# Altium footprint library WR-WTB.PcbLib: 259 footprints (part 9 of 17)
Each footprint in its own frame and in the unit in brackets; x right, y up, seen from the top. Pads: shape width x height; smd on the part's side, far side on the other; paste and mask are expansions set on the pad; w line width, h text height; cw(c..) or ccw(c..) is an arc to the next point about the centre after c.
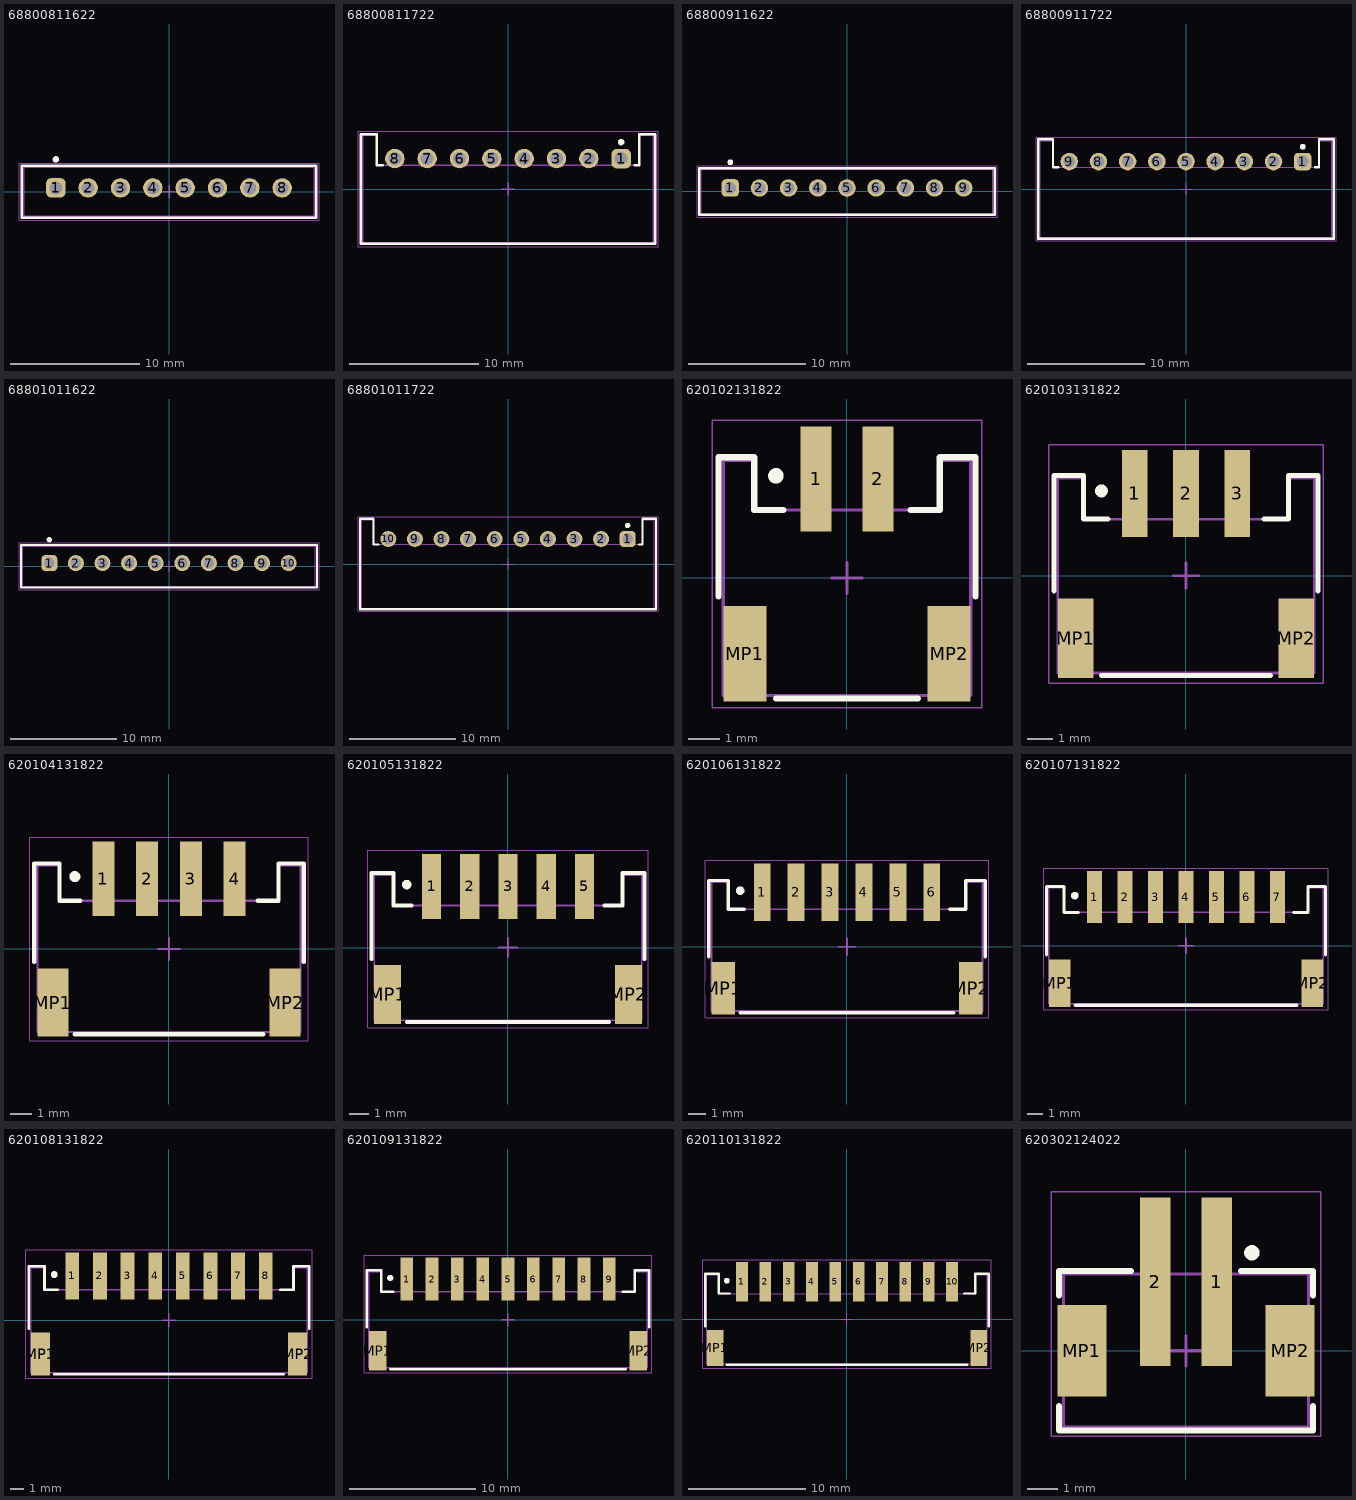
[diagram p8: the footprints below, top view; thin cyan lines are the x and y axes]

## 68800811622 [mm] "2.50mm ¡°J¡± Type Vertical Male Shrouded Header, 8p"
height 6
pads (8):
  rrect50% 1.5x1.5 hole 1: 1(-8.75,0.3)
  round 1.5 hole 1: 2(-6.25,0.3) 3(-3.75,0.3) 4(-1.25,0.3) 5(1.25,0.3) 6(3.75,0.3) 7(6.25,0.3) 8(8.75,0.3)
Top Overlay:
  circle w0.25: c-8.75,2.5 r0.125
  lines w0.2: -11.4,-2 11.4,-2 11.4,2 -11.4,2 -11.4,-2
Top Assembly:
  lines w0.1: -11.25,-1.9 -11.25,1.9 11.25,1.9 11.25,-1.9 -11.25,-1.9
Top Designator:
  text ".Designator" at -3.647,-0.357 h1
Top Courtyard:
  lines w0.05: -11.6,-2.2 11.6,-2.2 11.6,2.2 -11.6,2.2 -11.6,-2.2
Top Component Center:
  lines w0.1: -0.5,0 0.5,0 ; 0,-0.5 0,0.5
3D body "68800811622.stp": height 6.03, standoff -3.18, extent -11.25,-1.9 11.25,1.9

## 68800811722 [mm] "2.50mm ¡°J¡± Type Male Horizontal Shrouded Header, 8p"
height 4.2
pads (8):
  rrect50% 1.5x1.5 hole 1: 1(8.75,2.35)
  round 1.5 hole 1: 2(6.25,2.35) 3(3.75,2.35) 4(1.25,2.35) 5(-1.25,2.35) 6(-3.75,2.35) 7(-6.25,2.35) 8(-8.75,2.35)
Top Overlay:
  circle w0.25: c8.75,3.625 r0.125
  lines w0.2: -9.7,1.85 -10.15,1.85 -10.15,4.25 -11.4,4.25 -11.4,-4.25 11.4,-4.25 11.4,4.25 10.15,4.25 10.15,1.85 9.8,1.85
Top Assembly:
  lines w0.1: -11.25,-4.15 -11.25,4.15 -10.15,4.15 -10.15,1.85 10.15,1.85 10.15,4.15 11.25,4.15 11.25,-4.15 -11.25,-4.15
Top Designator:
  text ".Designator" at -3.647,-0.357 h1
Top Courtyard:
  lines w0.05: -11.6,-4.45 11.6,-4.45 11.6,4.45 -11.6,4.45 -11.6,-4.45
Top Component Center:
  lines w0.1: -0.5,0 0.5,0 ; 0,-0.5 0,0.5
3D body "68800811722.stp": height 4.23, standoff -3.27, extent -11.25,-4.15 11.25,4.15

## 68800911622 [mm] "2.50mm ¡°J¡± Type Vertical Male Shrouded Header, 9p"
height 6
pads (9):
  rrect50% 1.5x1.5 hole 1: 1(-10,0.3)
  round 1.5 hole 1: 2(-7.5,0.3) 3(-5,0.3) 4(-2.5,0.3) 5(0,0.3) 6(2.5,0.3) 7(5,0.3) 8(7.5,0.3) 9(10,0.3)
Top Overlay:
  circle w0.25: c-10,2.5 r0.125
  lines w0.2: -12.65,-2 12.65,-2 12.65,2 -12.65,2 -12.65,-2
Top Assembly:
  lines w0.1: -12.5,-1.9 -12.5,1.9 12.5,1.9 12.5,-1.9 -12.5,-1.9
Top Designator:
  text ".Designator" at -3.647,-0.357 h1
Top Courtyard:
  lines w0.05: -12.85,-2.2 12.85,-2.2 12.85,2.2 -12.85,2.2 -12.85,-2.2
Top Component Center:
  lines w0.1: -0.5,0 0.5,0 ; 0,-0.5 0,0.5
3D body "68800911622.stp": height 6.03, standoff -3.18, extent -12.5,-1.9 12.5,1.9

## 68800911722 [mm] "2.50mm ¡°J¡± Type Male Horizontal Shrouded Header, 9p"
height 4.2
pads (9):
  rrect50% 1.5x1.5 hole 1: 1(10,2.35)
  round 1.5 hole 1: 2(7.5,2.35) 3(5,2.35) 4(2.5,2.35) 5(0,2.35) 6(-2.5,2.35) 7(-5,2.35) 8(-7.5,2.35) 9(-10,2.35)
Top Overlay:
  circle w0.25: c10,3.625 r0.125
  lines w0.2: -10.95,1.85 -11.4,1.85 -11.4,4.25 -12.65,4.25 -12.65,-4.25 12.65,-4.25 12.65,4.25 11.4,4.25 11.4,1.85 11.05,1.85
Top Assembly:
  lines w0.1: -12.5,-4.15 12.5,-4.15 12.5,4.15 11.4,4.15 11.4,1.85 -11.4,1.85 -11.4,4.15 -12.5,4.15 -12.5,-4.15
Top Designator:
  text ".Designator" at -3.647,-0.357 h1
Top Courtyard:
  lines w0.05: -12.85,-4.45 -12.85,4.45 12.85,4.45 12.85,-4.45 -12.85,-4.45
Top Component Center:
  lines w0.1: -0.5,0 0.5,0 ; 0,-0.5 0,0.5
3D body "68800911722.stp": height 4.23, standoff -3.27, extent -12.5,-4.15 12.5,4.15

## 68801011622 [mm] "2.50mm ¡°J¡± Type Vertical Male Shrouded Header, 10p"
height 6
pads (10):
  rrect50% 1.5x1.5 hole 1: 1(-11.25,0.3)
  round 1.5 hole 1: 2(-8.75,0.3) 3(-6.25,0.3) 4(-3.75,0.3) 5(-1.25,0.3) 6(1.25,0.3) 7(3.75,0.3) 8(6.25,0.3) 9(8.75,0.3) 10(11.25,0.3)
Top Overlay:
  circle w0.25: c-11.25,2.5 r0.125
  lines w0.2: -13.9,-2 -13.9,2 13.9,2 13.9,-2 -13.9,-2
Top Assembly:
  lines w0.1: -13.75,-1.9 13.75,-1.9 13.75,1.9 -13.75,1.9 -13.75,-1.9
Top Designator:
  text ".Designator" at -3.647,-0.357 h1
Top Courtyard:
  lines w0.05: -14.1,-2.2 -14.1,2.2 14.1,2.2 14.1,-2.2 -14.1,-2.2
Top Component Center:
  lines w0.1: -0.5,0 0.5,0 ; 0,-0.5 0,0.5
3D body "68801011622.stp": height 6.03, standoff -3.18, extent -13.75,-1.9 13.75,1.9

## 68801011722 [mm] "2.50mm ¡°J¡± Type Male Horizontal Shrouded Header, 10p"
height 4.2
pads (10):
  rrect50% 1.5x1.5 hole 1: 1(11.25,2.35)
  round 1.5 hole 1: 2(8.75,2.35) 3(6.25,2.35) 4(3.75,2.35) 5(1.25,2.35) 6(-1.25,2.35) 7(-3.75,2.35) 8(-6.25,2.35) 9(-8.75,2.35) 10(-11.25,2.35)
Top Overlay:
  circle w0.25: c11.25,3.625 r0.125
  lines w0.2: -12.2,1.85 -12.65,1.85 -12.65,4.25 -13.9,4.25 -13.9,-4.25 13.9,-4.25 13.9,4.25 12.65,4.25 12.65,1.85 12.3,1.85
Top Assembly:
  lines w0.1: -13.75,-4.15 13.75,-4.15 13.75,4.15 12.65,4.15 12.65,1.85 -12.65,1.85 -12.65,4.15 -13.75,4.15 -13.75,-4.15
Top Designator:
  text ".Designator" at -3.647,-0.357 h1
Top Courtyard:
  lines w0.05: -14.1,-4.45 -14.1,4.45 14.1,4.45 14.1,-4.45 -14.1,-4.45
Top Component Center:
  lines w0.1: -0.5,0 0.5,0 ; 0,-0.5 0,0.5
3D body "68801011722.stp": height 4.23, standoff -3.27, extent -13.75,-4.15 13.75,4.15

## 620102131822 [mm] "2.00mm SMT Male Horizontal Shrouded Header, 2p"
height 5.6
pads (4):
  rect 1x3.4 smd: 1(-1,3.2) 2(1,3.2)
  rect 1.4x3.1 smd: MP1(-3.3,-2.45) MP2(3.3,-2.45)
Top Overlay:
  circle w0.25: c-2.3,3.3 r0.125
  lines w0.2: -4.15,-0.6 -4.15,3.9 -3,3.9 -3,2.2 -2.05,2.2 ; -2.3,-3.9 2.3,-3.9 ; 2.05,2.2 3,2.2 3,3.9 4.15,3.9 4.15,-0.6
Top Assembly:
  lines w0.1: -4,-3.8 4,-3.8 4,3.8 3,3.8 3,2.2 -3,2.2 -3,3.8 -4,3.8 -4,-3.8
Top Designator:
  text ".Designator" at -3.647,-0.357 h1
Top Courtyard:
  lines w0.05: -4.35,-4.2 4.35,-4.2 4.35,5.1 -4.35,5.1 -4.35,-4.2
Top Component Center:
  lines w0.1: -0.5,0 0.5,0 ; 0,-0.5 0,0.5
3D body "620102131822.stp": height 5.57, standoff -0.01, extent -4,-3.8 4,4.8

## 620103131822 [mm] "2.00mm SMT Male Horizontal Shrouded Header, 3p"
height 5.6
pads (5):
  rect 1x3.4 smd: 1(-2,3.2) 2(0,3.2) 3(2,3.2)
  rect 1.4x3.1 smd: MP1(-4.3,-2.45) MP2(4.3,-2.45)
Top Overlay:
  circle w0.25: c-3.3,3.3 r0.125
  lines w0.2: -5.15,-0.6 -5.15,3.9 -4,3.9 -4,2.2 -3.05,2.2 ; -3.3,-3.9 3.3,-3.9 ; 3.05,2.2 4,2.2 4,3.9 5.15,3.9 5.15,-0.6
Top Assembly:
  lines w0.1: -5,-3.8 -5,3.8 -4,3.8 -4,2.2 4,2.2 4,3.8 5,3.8 5,-3.8 -5,-3.8
Top Designator:
  text ".Designator" at -3.647,-0.357 h1
Top Courtyard:
  lines w0.05: -5.35,-4.2 -5.35,5.1 5.35,5.1 5.35,-4.2 -5.35,-4.2
Top Component Center:
  lines w0.1: -0.5,0 0.5,0 ; 0,-0.5 0,0.5
3D body "620103131822.stp": height 5.57, standoff -0.01, extent -5,-3.8 5,4.8

## 620104131822 [mm] "2.00mm SMT Male Horizontal Shrouded Header, 4p"
height 5.6
pads (6):
  rect 1x3.4 smd: 1(-3,3.2) 2(-1,3.2) 3(1,3.2) 4(3,3.2)
  rect 1.4x3.1 smd: MP1(-5.3,-2.45) MP2(5.3,-2.45)
Top Overlay:
  circle w0.25: c-4.3,3.3 r0.125
  lines w0.2: -6.15,-0.6 -6.15,3.9 -5,3.9 -5,2.2 -4.05,2.2 ; -4.3,-3.9 4.3,-3.9 ; 4.05,2.2 5,2.2 5,3.9 6.15,3.9 6.15,-0.6
Top Assembly:
  lines w0.1: -6,-3.8 -6,3.8 -5,3.8 -5,2.2 5,2.2 5,3.8 6,3.8 6,-3.8 -6,-3.8
Top Designator:
  text ".Designator" at -3.647,-0.357 h1
Top Courtyard:
  lines w0.05: -6.35,-4.2 -6.35,5.1 6.35,5.1 6.35,-4.2 -6.35,-4.2
Top Component Center:
  lines w0.1: -0.5,0 0.5,0 ; 0,-0.5 0,0.5
3D body "620104131822.stp": height 5.57, standoff -0.01, extent -6,-3.8 6,4.8

## 620105131822 [mm] "2.00mm SMT Male Horizontal Shrouded Header, 5p"
height 5.6
pads (7):
  rect 1x3.4 smd: 1(-4,3.2) 2(-2,3.2) 3(0,3.2) 4(2,3.2) 5(4,3.2)
  rect 1.4x3.1 smd: MP1(-6.3,-2.45) MP2(6.3,-2.45)
Top Overlay:
  circle w0.25: c-5.3,3.3 r0.125
  lines w0.2: -7.15,-0.6 -7.15,3.9 -6,3.9 -6,2.2 -5.05,2.2 ; -5.3,-3.9 5.3,-3.9 ; 5.05,2.2 6,2.2 6,3.9 7.15,3.9 7.15,-0.6
Top Assembly:
  lines w0.1: -7,-3.8 7,-3.8 7,3.8 6,3.8 6,2.2 -6,2.2 -6,3.8 -7,3.8 -7,-3.8
Top Designator:
  text ".Designator" at -3.647,-0.357 h1
Top Courtyard:
  lines w0.05: -7.35,-4.2 7.35,-4.2 7.35,5.1 -7.35,5.1 -7.35,-4.2
Top Component Center:
  lines w0.1: -0.5,0 0.5,0 ; 0,-0.5 0,0.5
3D body "620105131822.stp": height 5.57, standoff -0.01, extent -7,-3.8 7,4.8

## 620106131822 [mm] "2.00mm SMT Male Horizontal Shrouded Header, 6p"
height 5.6
pads (8):
  rect 1x3.4 smd: 1(-5,3.2) 2(-3,3.2) 3(-1,3.2) 4(1,3.2) 5(3,3.2) 6(5,3.2)
  rect 1.4x3.1 smd: MP1(-7.3,-2.45) MP2(7.3,-2.45)
Top Overlay:
  circle w0.25: c-6.3,3.3 r0.125
  lines w0.2: -8.15,-0.6 -8.15,3.9 -7,3.9 -7,2.2 -6.05,2.2 ; -6.3,-3.9 6.3,-3.9 ; 6.05,2.2 7,2.2 7,3.9 8.15,3.9 8.15,-0.6
Top Assembly:
  lines w0.1: -8,-3.8 -8,3.8 -7,3.8 -7,2.2 7,2.2 7,3.8 8,3.8 8,-3.8 -8,-3.8
Top Designator:
  text ".Designator" at -3.647,-0.357 h1
Top Courtyard:
  lines w0.05: -8.35,-4.2 -8.35,5.1 8.35,5.1 8.35,-4.2 -8.35,-4.2
Top Component Center:
  lines w0.1: -0.5,0 0.5,0 ; 0,-0.5 0,0.5
3D body "620106131822.stp": height 5.57, standoff -0.01, extent -8,-3.8 8,4.8

## 620107131822 [mm] "2.00mm SMT Male Horizontal Shrouded Header, 7p"
height 5.6
pads (9):
  rect 1x3.4 smd: 1(-6,3.2) 2(-4,3.2) 3(-2,3.2) 4(0,3.2) 5(2,3.2) 6(4,3.2) 7(6,3.2)
  rect 1.4x3.1 smd: MP1(-8.3,-2.45) MP2(8.3,-2.45)
Top Overlay:
  circle w0.25: c-7.3,3.3 r0.125
  lines w0.2: -9.15,-0.6 -9.15,3.9 -8,3.9 -8,2.2 -7.05,2.2 ; -7.3,-3.9 7.3,-3.9 ; 7.05,2.2 8,2.2 8,3.9 9.15,3.9 9.15,-0.6
Top Assembly:
  lines w0.1: -9,-3.8 -9,3.8 -8,3.8 -8,2.2 8,2.2 8,3.8 9,3.8 9,-3.8 -9,-3.8
Top Designator:
  text ".Designator" at -3.647,-0.357 h1
Top Courtyard:
  lines w0.05: -9.35,-4.2 -9.35,5.1 9.35,5.1 9.35,-4.2 -9.35,-4.2
Top Component Center:
  lines w0.1: -0.5,0 0.5,0 ; 0,-0.5 0,0.5
3D body "620107131822.stp": height 5.57, standoff -0.01, extent -9,-3.8 9,4.8

## 620108131822 [mm] "2.00mm SMT Male Horizontal Shrouded Header, 8p"
height 5.6
pads (10):
  rect 1x3.4 smd: 1(-7,3.2) 2(-5,3.2) 3(-3,3.2) 4(-1,3.2) 5(1,3.2) 6(3,3.2) 7(5,3.2) 8(7,3.2)
  rect 1.4x3.1 smd: MP1(-9.3,-2.45) MP2(9.3,-2.45)
Top Overlay:
  circle w0.25: c-8.3,3.3 r0.125
  lines w0.2: -10.15,-0.6 -10.15,3.9 -9,3.9 -9,2.2 -8.05,2.2 ; -8.3,-3.9 8.3,-3.9 ; 8.05,2.2 9,2.2 9,3.9 10.15,3.9 10.15,-0.6
Top Assembly:
  lines w0.1: -10,-3.8 -10,3.8 -9,3.8 -9,2.2 9,2.2 9,3.8 10,3.8 10,-3.8 -10,-3.8
Top Designator:
  text ".Designator" at -3.647,-0.357 h1
Top Courtyard:
  lines w0.05: -10.35,-4.2 -10.35,5.1 10.35,5.1 10.35,-4.2 -10.35,-4.2
Top Component Center:
  lines w0.1: -0.5,0 0.5,0 ; 0,-0.5 0,0.5
3D body "620108131822.stp": height 5.57, standoff -0.01, extent -10,-3.8 10,4.8

## 620109131822 [mm] "2.00mm SMT Male Horizontal Shrouded Header, 9p"
height 5.6
pads (11):
  rect 1x3.4 smd: 1(-8,3.2) 2(-6,3.2) 3(-4,3.2) 4(-2,3.2) 5(0,3.2) 6(2,3.2) 7(4,3.2) 8(6,3.2) 9(8,3.2)
  rect 1.4x3.1 smd: MP1(-10.3,-2.45) MP2(10.3,-2.45)
Top Overlay:
  circle w0.25: c-9.3,3.3 r0.125
  lines w0.2: -11.15,-0.6 -11.15,3.9 -10,3.9 -10,2.2 -9.05,2.2 ; -9.3,-3.9 9.3,-3.9 ; 9.05,2.2 10,2.2 10,3.9 11.15,3.9 11.15,-0.6
Top Assembly:
  lines w0.1: -11,-3.8 -11,3.8 -10,3.8 -10,2.2 10,2.2 10,3.8 11,3.8 11,-3.8 -11,-3.8
Top Designator:
  text ".Designator" at -3.647,-0.357 h1
Top Courtyard:
  lines w0.05: -11.35,-4.2 -11.35,5.1 11.35,5.1 11.35,-4.2 -11.35,-4.2
Top Component Center:
  lines w0.1: -0.5,0 0.5,0 ; 0,-0.5 0,0.5
3D body "620109131822.stp": height 5.57, standoff -0.01, extent -11,-3.8 11,4.8

## 620110131822 [mm] "2.00mm SMT Male Horizontal Shrouded Header, 10p"
height 5.6
pads (12):
  rect 1x3.4 smd: 1(-9,3.2) 2(-7,3.2) 3(-5,3.2) 4(-3,3.2) 5(-1,3.2) 6(1,3.2) 7(3,3.2) 8(5,3.2) 9(7,3.2) 10(9,3.2)
  rect 1.4x3.1 smd: MP1(-11.3,-2.45) MP2(11.3,-2.45)
Top Overlay:
  circle w0.25: c-10.3,3.3 r0.125
  lines w0.2: -12.15,-0.6 -12.15,3.9 -11,3.9 -11,2.2 -10.05,2.2 ; -10.3,-3.9 10.3,-3.9 ; 10.05,2.2 11,2.2 11,3.9 12.15,3.9 12.15,-0.6
Top Assembly:
  lines w0.1: -12,-3.8 12,-3.8 12,3.8 11,3.8 11,2.2 -11,2.2 -11,3.8 -12,3.8 -12,-3.8
Top Designator:
  text ".Designator" at -3.647,-0.357 h1
Top Courtyard:
  lines w0.05: -12.35,-4.2 12.35,-4.2 12.35,5.1 -12.35,5.1 -12.35,-4.2
Top Component Center:
  lines w0.1: -0.5,0 0.5,0 ; 0,-0.5 0,0.5
3D body "620110131822.stp": height 5.57, standoff -0.01, extent -12,-3.8 12,4.8

## 620302124022 [mm] "2.00mm SMT Male Vertical Shrouded Header, 2p"
height 6.86
pads (4):
  rect 1x5.5 smd: 1(1,2.25) 2(-1,2.25)
  rect 1.6x3 smd: MP1(-3.4,0) MP2(3.4,0)
Top Overlay:
  circle w0.25: c2.15,3.2 r0.125
  lines w0.2: -4.15,-1.8 -4.15,-2.6 4.15,-2.6 4.15,-1.8 ; -4.15,1.8 -4.15,2.6 -1.8,2.6 ; 1.8,2.6 4.15,2.6 4.15,1.8
Top Assembly:
  lines w0.1: -4,-2.5 4,-2.5 4,2.5 -4,2.5 -4,-2.5
Top Designator:
  text ".Designator" at -3.647,-0.357 h1
Top Courtyard:
  lines w0.05: -4.4,-2.8 -4.4,5.2 4.4,5.2 4.4,-2.8 -4.4,-2.8
Top Component Center:
  lines w0.1: -0.5,0 0.5,0 ; 0,-0.5 0,0.5
3D body "620302124022.stp": height 6.77, standoff -0.01, extent -4,-2.5 4,4.51